# EAGLE library part BLUETOOTH-RN41 (library SparkFun-RF (2))
Bluetooth SMD module
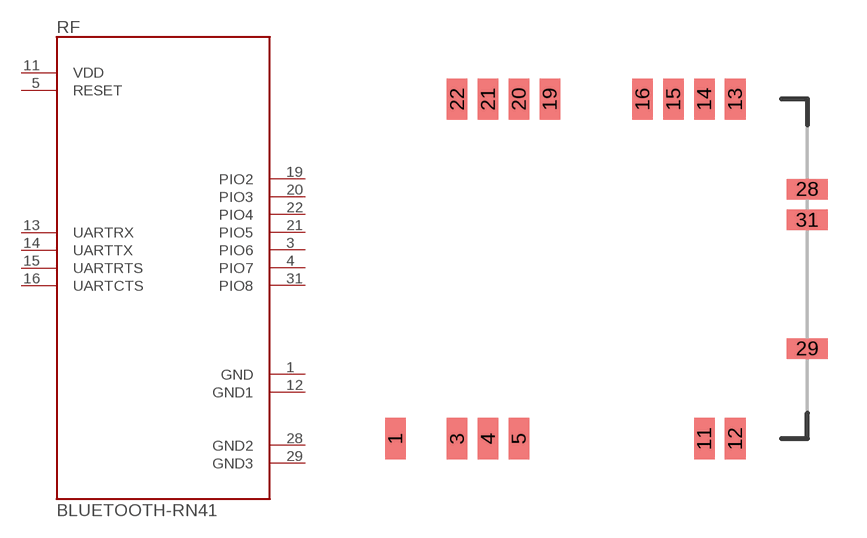
[diagram p0: symbol with the pads of RN41; footprint RN41]

Designator prefix RF

## BLUETOOTH-RN41"  [RN41]
1  GND
3  PIO6
4  PIO7
5  RESET
11  VDD
12  GND1
13  UARTRX
14  UARTTX
15  UARTRTS
16  UARTCTS
19  PIO2
20  PIO3
21  PIO5
22  PIO4
28  GND2
29  GND3
31  PIO8

## Footprint RN41 (pad centres in mm)
smd 0.8 x 1.6: 1 -6.6,-6.6; 3 -4.2,-6.6; 4 -3,-6.6; 5 -1.8,-6.6; 11 5.4,-6.6; 12 6.6,-6.6; 13 6.6,6.6; 14 5.4,6.6; 15 4.2,6.6; 16 3,6.6; 19 -0.6,6.6; 20 -1.8,6.6; 21 -3,6.6; 22 -4.2,6.6
smd 1.6 x 0.8: 28 9.4,3.1; 29 9.4,-3.1; 31 9.4,1.9